# EAGLE library part UC3846 (library PWM)
current mode PWM controller
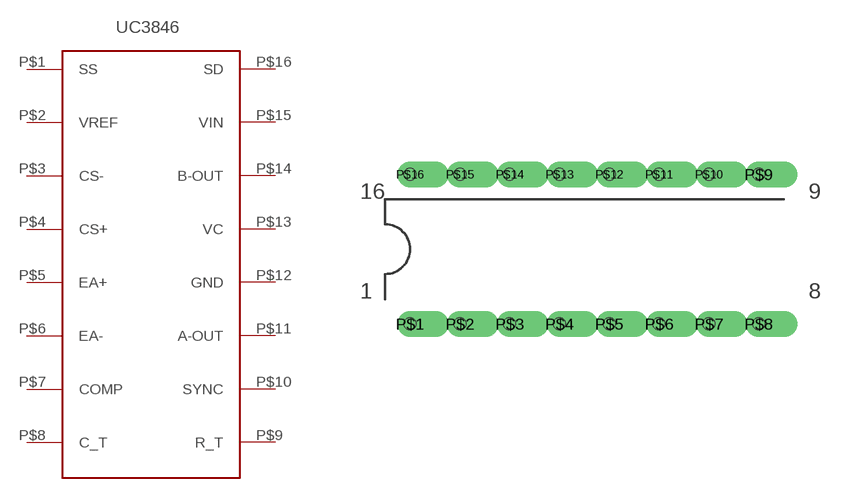
[diagram p0: symbol with the pads of DIL16; footprint DIL16]

Designator prefix -

## UC3846DIL16-1  [DIL16]
P$1  SS  in
P$2  VREF  in
P$3  CS-  in
P$4  CS+  in
P$5  EA+  in
P$6  EA-  in
P$7  COMP  in
P$8  C_T  in
P$9  R_T  in
P$10  SYNC  in
P$11  A-OUT  in
P$12  GND  in
P$13  VC  in
P$14  B-OUT  in
P$15  VIN  in
P$16  SD  in

## Footprint DIL16 (pad centres in mm)
DIL-16
drill 0.813 offset: P$1 -8.89,-3.81; P$2 -6.35,-3.81; P$3 -3.81,-3.81; P$4 -1.27,-3.81; P$5 1.27,-3.81; P$6 3.81,-3.81; P$7 6.35,-3.81; P$8 8.89,-3.81; P$9 8.89,3.81; P$10 6.35,3.81; P$11 3.81,3.81; P$12 1.27,3.81; P$13 -1.27,3.81; P$14 -3.81,3.81; P$15 -6.35,3.81; P$16 -8.89,3.81
hole 0.61 at -6.35,3.81
hole 0.61 at -3.81,3.81
hole 0.61 at -1.27,3.81
hole 0.61 at 1.27,3.81
hole 0.61 at 3.81,3.81
hole 0.61 at 6.35,3.81
hole 0.61 at 8.89,3.81
hole 0.61 at 8.89,-3.81
hole 0.61 at 6.35,-3.81
hole 0.61 at 3.81,-3.81
hole 0.61 at 1.27,-3.81
hole 0.61 at -1.27,-3.81
hole 0.61 at -3.81,-3.81
hole 0.61 at -6.35,-3.81
hole 0.61 at -8.89,-3.81
hole 0.61 at -8.89,3.81